# Altium footprint library Power_Metering.PcbLib: 2 footprints
Each footprint in its own frame and in the unit in brackets; x right, y up, seen from the top. Pads: shape width x height; smd on the part's side, far side on the other; paste and mask are expansions set on the pad; w line width, h text height; cw(c..) or ccw(c..) is an arc to the next point about the centre after c.
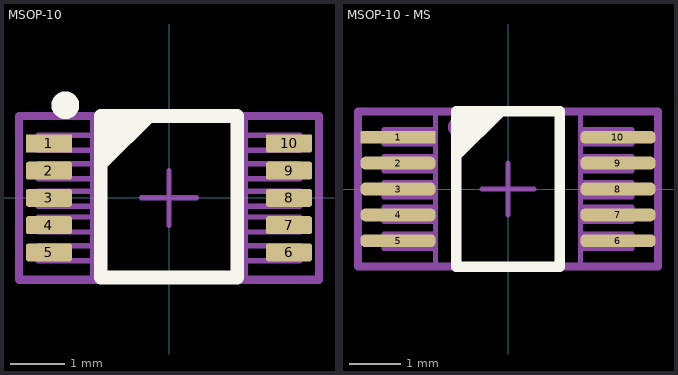
[diagram p0: the footprints below, top view; thin cyan lines are the x and y axes]

## MSOP-10 [mm] "MSOP-10 (audran-Mars2017) LTC DWG # 05-08-1661"
height 1.1
pads (10):
  rect 0.85x0.33 smd: 1(-2.2,1)
  rrect30% 0.85x0.33 smd: 2(-2.2,0.5) 3(-2.2,0) 4(-2.2,-0.5) 5(-2.2,-1) 6(2.2,-1) 7(2.2,-0.5) 8(2.2,0) 9(2.2,0.5)
  rrect20% 0.85x0.33 smd: 10(2.2,1)
Top Overlay:
  circle w0.254: c-1.9,1.7 r0.127
  region: -1.2,1.5 -0.2,1.5 -1.2,0.508
  lines w0.254: -1.25,-1.457 -1.25,1.5 1.25,1.5 1.25,-1.457 -1.25,-1.457
Mechanical 13:
  circle w0.254: c-0.963,1.2 r0.068
  lines w0.1: -1.4,-1.15 -2.4,-1.15 -2.4,-0.875 -1.4,-0.875 ; -1.4,-0.625 -2.4,-0.625 -2.4,-0.35 -1.4,-0.35 ; -1.4,-0.15 -2.4,-0.15 -2.4,0.125 -1.4,0.125 ; -1.4,0.35 -2.4,0.35 -2.4,0.625 -1.4,0.625 ; -1.4,0.875 -2.4,0.875 -2.4,1.15 -1.4,1.15 ; 1.4,-1.15 2.4,-1.15 2.4,-0.875 1.4,-0.875 ; 1.4,-0.625 2.4,-0.625 2.4,-0.35 1.4,-0.35 ; 1.4,-0.15 2.4,-0.15 2.4,0.125 1.4,0.125 ; 1.4,0.35 2.4,0.35 2.4,0.625 1.4,0.625 ; 1.4,0.875 2.4,0.875 2.4,1.15 1.4,1.15 ; -1.4,-1.5 -1.4,1.5 1.4,1.5 1.4,-1.5 -1.4,-1.5
Mechanical 15:
  lines w0.1: -0.5,0 0.5,0 ; 0,-0.5 0,0.5
  lines w0.15: -2.75,-1.5 2.75,-1.5 2.75,1.5 -2.75,1.5 -2.75,-1.5
Mechanical 17 (Mech17):
  text ".Designator" at -0.4,-0.2 h1.5
3D body "MSOP-10.stp": height 1.15, standoff 0, extent -2.45,-1.5 2.45,1.5

## MSOP-10 - MS [mm] "DWG # 05-08-1661 - manual soldering"
height 1.1
pads (10):
  rrect20% 1.45x0.25 smd: 1(-2.125,1)
  rrect75% 1.45x0.25 smd: 2(-2.125,0.5) 3(-2.125,0) 4(-2.125,-0.5) 5(-2.125,-1) 6(2.125,-1) 7(2.125,-0.5) 8(2.125,0) 9(2.125,0.5) 10(2.125,1)
Top Overlay:
  region: -1,1.5 0,1.5 -1,0.508
  lines w0.2: -1,-1.5 1,-1.5 1,1.5 -1,1.5 -1,-1.5
Mechanical 13:
  circle w0.254: c-0.963,1.2 r0.068
  lines w0.1: -1.4,-1.15 -2.4,-1.15 -2.4,-0.875 -1.4,-0.875 ; -1.4,-0.625 -2.4,-0.625 -2.4,-0.35 -1.4,-0.35 ; -1.4,-0.15 -2.4,-0.15 -2.4,0.125 -1.4,0.125 ; -1.4,0.35 -2.4,0.35 -2.4,0.625 -1.4,0.625 ; -1.4,0.875 -2.4,0.875 -2.4,1.15 -1.4,1.15 ; 1.4,-1.15 2.4,-1.15 2.4,-0.875 1.4,-0.875 ; 1.4,-0.625 2.4,-0.625 2.4,-0.35 1.4,-0.35 ; 1.4,-0.15 2.4,-0.15 2.4,0.125 1.4,0.125 ; 1.4,0.35 2.4,0.35 2.4,0.625 1.4,0.625 ; 1.4,0.875 2.4,0.875 2.4,1.15 1.4,1.15 ; -1.4,-1.5 1.4,-1.5 1.4,1.5 -1.4,1.5 -1.4,-1.5
Mechanical 15:
  lines w0.1: -0.5,0 0.5,0 ; 0,-0.5 0,0.5
  lines w0.15: -2.9,-1.5 2.9,-1.5 2.9,1.5 -2.9,1.5 -2.9,-1.5
Mechanical 17 (Mech17):
  text ".Designator" at -0.4,-0.2 h1.5
3D body "MSOP-10 (1).stp": height 1.15, standoff 0, extent -2.45,-1.5 2.45,1.5